# Altium integrated library connector devives.IntLib: 1 symbol
Pins are listed as number, name and electrical type; pins without a type are passive.

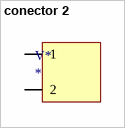
[diagram p0: symbol conector 2]

## conector 2
designator V*
footprint PCBComponent_1
pins: 1, 2